# Altium integrated library AD Operational Amplifier.IntLib: 1114 symbols (part 8 of 13)
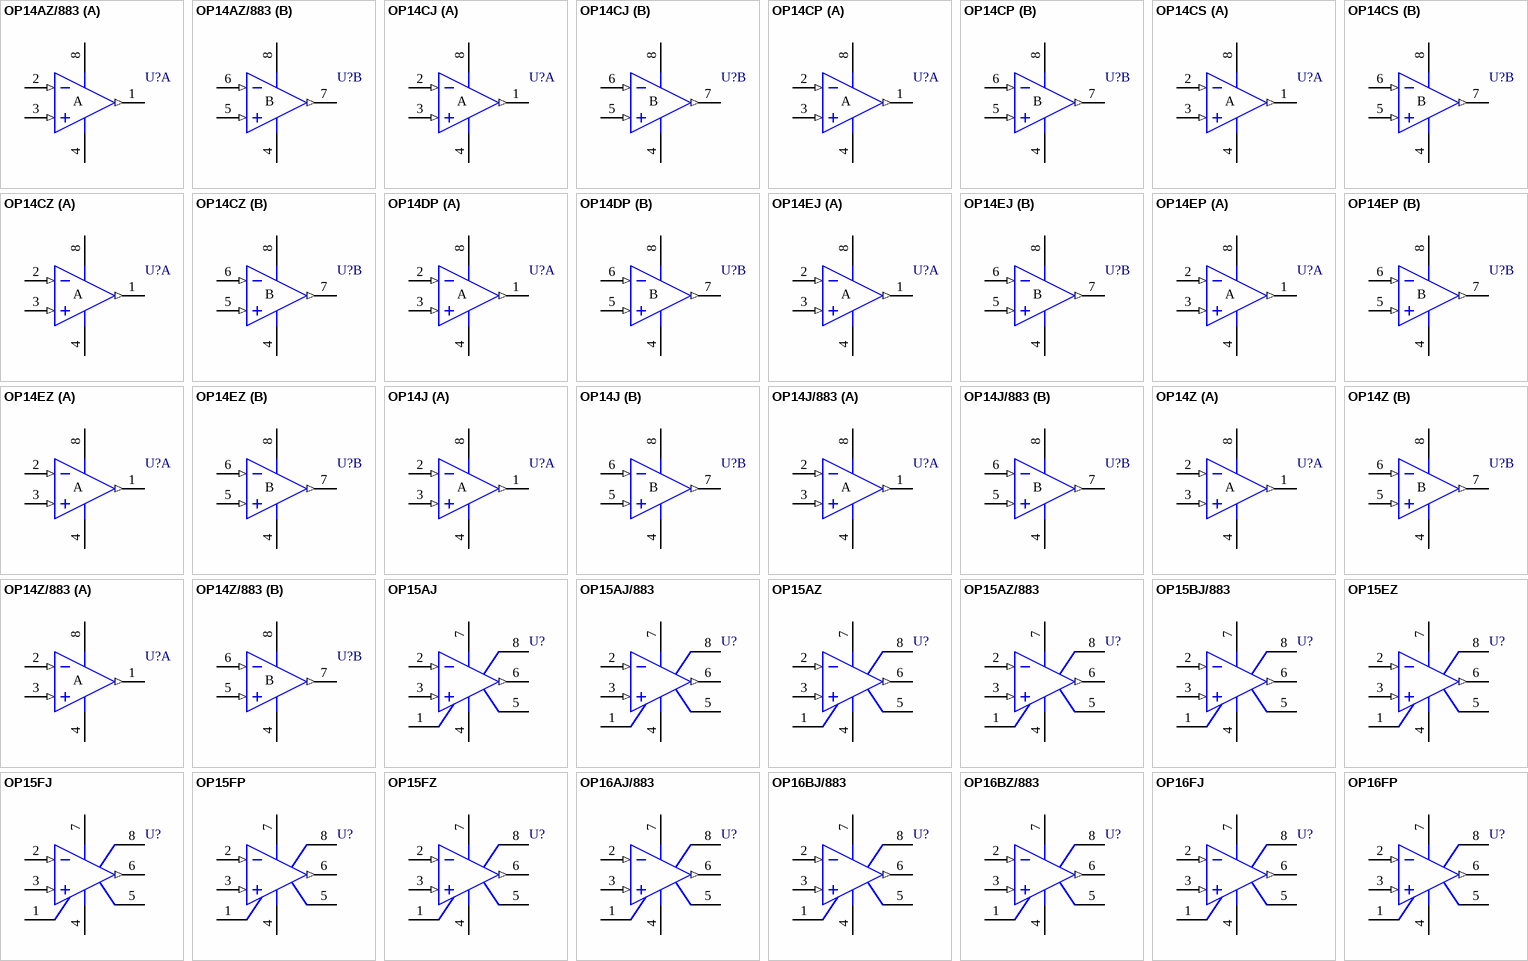
[diagram p53: symbols OP14AZ/883 to OP16FP]

## OP14Z/883
designator U?
Dual Matched High Performance Operational Amplifier; Package Information: Latest Revision: 1998; Published: 8-Jun-2000; Revision: 17-Jul-2002: Re-released for DXP Platform.; Datasheet: Designer's Reference Manual CD (REV. B 1992); Package Reference: Q-8; Publisher: Altium Limited
footprint Q-8 (DIP; 8 Leads; Row Spacing 7.62 mm; Pitch 2.54 mm)
pins on every part: 4 V- (power), 8 V+ (power)
part A pins: 1 OUT (out), 2 IN- (in), 3 IN+ (in)
part B pins: 5 IN+ (in), 6 IN- (in), 7 OUT (out)
part A text: A
part B text: B

## OP15AJ
designator U?
Precision JFET-Input Operational Amplifier; Package Information: Latest Revision: 1990; Note: Pin 8 is not connected; Pin 4 connected to case.; Published: 8-Jun-2000; Revision: 17-Jul-2002: Re-released for DXP Platform.; Datasheet: Latest Revision: 1992; Package Reference: H-08A; Publisher: Altium Limited
footprint H-08A (Can; 8 Leads; Pin Circle Dia. 5.08 mm; Lead Dia. 0.53 mm (max))
pins: 1 BAL, 2 IN- (in), 3 IN+ (in), 4 V- (power), 5 BAL, 6 OUT (out), 7 V+ (power), 8 NC

## OP15AJ/883
designator U?
Precision JFET-Input Operational Amplifier; Package Information: Latest Revision: 1990; Note: Pin 8 is not connected; Pin 4 connected to case.; Published: 8-Jun-2000; Revision: 17-Jul-2002: Re-released for DXP Platform.; Datasheet: Latest Revision: 1992; Package Reference: H-08A; Publisher: Altium Limited
footprint H-08A (Can; 8 Leads; Pin Circle Dia. 5.08 mm; Lead Dia. 0.53 mm (max))
pins: 1 BAL, 2 IN- (in), 3 IN+ (in), 4 V- (power), 5 BAL, 6 OUT (out), 7 V+ (power), 8 NC

## OP15AZ
designator U?
Precision JFET-Input Operational Amplifier; Package Information: Latest Revision: 1998; Note: Pin 8 is not connected.; Published: 8-Jun-2000; Revision: 17-Jul-2002: Re-released for DXP Platform.; Datasheet: Latest Revision: 1992; Package Reference: Q-8; Publisher: Altium Limited
footprint Q-8 (DIP; 8 Leads; Row Spacing 7.62 mm; Pitch 2.54 mm)
pins: 1 BAL, 2 IN- (in), 3 IN+ (in), 4 V- (power), 5 BAL, 6 OUT (out), 7 V+ (power), 8 NC

## OP15AZ/883
designator U?
Precision JFET-Input Operational Amplifier; Package Information: Latest Revision: 1998; Note: Pin 8 is not connected.; Published: 8-Jun-2000; Revision: 17-Jul-2002: Re-released for DXP Platform.; Datasheet: Latest Revision: 1992; Package Reference: Q-8; Publisher: Altium Limited
footprint Q-8 (DIP; 8 Leads; Row Spacing 7.62 mm; Pitch 2.54 mm)
pins: 1 BAL, 2 IN- (in), 3 IN+ (in), 4 V- (power), 5 BAL, 6 OUT (out), 7 V+ (power), 8 NC

## OP15BJ/883
designator U?
Precision JFET-Input Operational Amplifier; Revision 1: 10-Jul-2000: SIM Model Added.; Revision 2: 17-Jul-2002: Re-released for DXP Platform.; Package Information: Latest Revision: 1990; Note: Pin 8 is not connected; Pin 4 connected to case.; Published: 8-Jun-2000; Datasheet: Latest Revision: 1992; Package Reference: H-08A; Publisher: Altium Limited
footprint H-08A (Can; 8 Leads; Pin Circle Dia. 5.08 mm; Lead Dia. 0.53 mm (max))
simulation model OP15B (SUBCKT)
pins: 1 BAL, 2 IN- (in), 3 IN+ (in), 4 V- (power), 5 BAL, 6 OUT (out), 7 V+ (power), 8 NC

## OP15EZ
designator U?
Precision JFET-Input Operational Amplifier; Revision 1: 10-Jul-2000: SIM Model Added.; Revision 2: 17-Jul-2002: Re-released for DXP Platform.; Package Information: Latest Revision: 1998; Note: Pin 8 is not connected.; Published: 8-Jun-2000; Datasheet: Latest Revision: 1992; Package Reference: Q-8; Publisher: Altium Limited
footprint Q-8 (DIP; 8 Leads; Row Spacing 7.62 mm; Pitch 2.54 mm)
simulation model OP15E (SUBCKT)
pins: 1 BAL, 2 IN- (in), 3 IN+ (in), 4 V- (power), 5 BAL, 6 OUT (out), 7 V+ (power), 8 NC

## OP15FJ
designator U?
Precision JFET-Input Operational Amplifier; Revision 1: 10-Jul-2000: SIM Model Added.; Revision 2: 17-Jul-2002: Re-released for DXP Platform.; Package Information: Latest Revision: 1990; Note: Pin 8 is not connected; Pin 4 connected to case.; Published: 8-Jun-2000; Datasheet: Latest Revision: 1992; Package Reference: H-08A; Publisher: Altium Limited
footprint H-08A (Can; 8 Leads; Pin Circle Dia. 5.08 mm; Lead Dia. 0.53 mm (max))
simulation model OP15F (SUBCKT)
pins: 1 BAL, 2 IN- (in), 3 IN+ (in), 4 V- (power), 5 BAL, 6 OUT (out), 7 V+ (power), 8 NC

## OP15FP
designator U?
Precision JFET-Input Operational Amplifier; Revision 1: 10-Jul-2000: SIM Model Added.; Revision 2: 17-Jul-2002: Re-released for DXP Platform.; Note: Pin 8 is not connected.; Code - JEDEC: MO-001-AN; Published: 8-Jun-2000; Datasheet: Latest Revision: 1992; Package Reference: N-8_A; Publisher: Altium Limited
footprint N-8_A (DIP; 8 Leads; Row Spacing 7.62 mm; Pitch 2.54 mm)
simulation model OP15F (SUBCKT)
pins: 1 BAL, 2 IN- (in), 3 IN+ (in), 4 V- (power), 5 BAL, 6 OUT (out), 7 V+ (power), 8 NC

## OP15FZ
designator U?
Precision JFET-Input Operational Amplifier; Revision 1: 10-Jul-2000: SIM Model Added.; Revision 2: 17-Jul-2002: Re-released for DXP Platform.; Package Information: Latest Revision: 1998; Note: Pin 8 is not connected.; Published: 8-Jun-2000; Datasheet: Latest Revision: 1992; Package Reference: Q-8; Publisher: Altium Limited
footprint Q-8 (DIP; 8 Leads; Row Spacing 7.62 mm; Pitch 2.54 mm)
simulation model OP15F (SUBCKT)
pins: 1 BAL, 2 IN- (in), 3 IN+ (in), 4 V- (power), 5 BAL, 6 OUT (out), 7 V+ (power), 8 NC

## OP16AJ/883
designator U?
Precision JFET-Input Operational Amplifier; Revision 1: 10-Jul-2000: SIM Model Added.; Revision 2: 17-Jul-2002: Re-released for DXP Platform.; Package Information: Latest Revision: 1990; Note: Pin 8 is not connected; Pin 4 connected to case.; Published: 8-Jun-2000; Datasheet: Latest Revision: 1992; Package Reference: H-08A; Publisher: Altium Limited
footprint H-08A (Can; 8 Leads; Pin Circle Dia. 5.08 mm; Lead Dia. 0.53 mm (max))
simulation model OP16A (SUBCKT)
pins: 1 BAL, 2 IN- (in), 3 IN+ (in), 4 V- (power), 5 BAL, 6 OUT (out), 7 V+ (power), 8 NC

## OP16BJ/883
designator U?
Precision JFET-Input Operational Amplifier; Revision 1: 10-Jul-2000: SIM Model Added.; Revision 2: 17-Jul-2002: Re-released for DXP Platform.; Package Information: Latest Revision: 1990; Note: Pin 8 is not connected; Pin 4 connected to case.; Published: 8-Jun-2000; Datasheet: Latest Revision: 1992; Package Reference: H-08A; Publisher: Altium Limited
footprint H-08A (Can; 8 Leads; Pin Circle Dia. 5.08 mm; Lead Dia. 0.53 mm (max))
simulation model OP16B (SUBCKT)
pins: 1 BAL, 2 IN- (in), 3 IN+ (in), 4 V- (power), 5 BAL, 6 OUT (out), 7 V+ (power), 8 NC

## OP16BZ/883
designator U?
Precision JFET-Input Operational Amplifier; Revision 1: 10-Jul-2000: SIM Model Added.; Revision 2: 17-Jul-2002: Re-released for DXP Platform.; Package Information: Latest Revision: 1998; Note: Pin 8 is not connected.; Published: 8-Jun-2000; Datasheet: Latest Revision: 1992; Package Reference: Q-8; Publisher: Altium Limited
footprint Q-8 (DIP; 8 Leads; Row Spacing 7.62 mm; Pitch 2.54 mm)
simulation model OP16B (SUBCKT)
pins: 1 BAL, 2 IN- (in), 3 IN+ (in), 4 V- (power), 5 BAL, 6 OUT (out), 7 V+ (power), 8 NC

## OP16FJ
designator U?
Precision JFET-Input Operational Amplifier; Revision 1: 10-Jul-2000: SIM Model Added.; Revision 2: 17-Jul-2002: Re-released for DXP Platform.; Package Information: Latest Revision: 1990; Note: Pin 8 is not connected; Pin 4 connected to case.; Published: 8-Jun-2000; Datasheet: Latest Revision: 1992; Package Reference: H-08A; Publisher: Altium Limited
footprint H-08A (Can; 8 Leads; Pin Circle Dia. 5.08 mm; Lead Dia. 0.53 mm (max))
simulation model OP16F (SUBCKT)
pins: 1 BAL, 2 IN- (in), 3 IN+ (in), 4 V- (power), 5 BAL, 6 OUT (out), 7 V+ (power), 8 NC

## OP16FP
designator U?
Precision JFET-Input Operational Amplifier; Revision 1: 10-Jul-2000: SIM Model Added.; Revision 2: 17-Jul-2002: Re-released for DXP Platform.; Note: Pin 8 is not connected.; Code - JEDEC: MO-001-AN; Published: 8-Jun-2000; Datasheet: Latest Revision: 1992; Package Reference: N-8_A; Publisher: Altium Limited
footprint N-8_A (DIP; 8 Leads; Row Spacing 7.62 mm; Pitch 2.54 mm)
simulation model OP16F (SUBCKT)
pins: 1 BAL, 2 IN- (in), 3 IN+ (in), 4 V- (power), 5 BAL, 6 OUT (out), 7 V+ (power), 8 NC

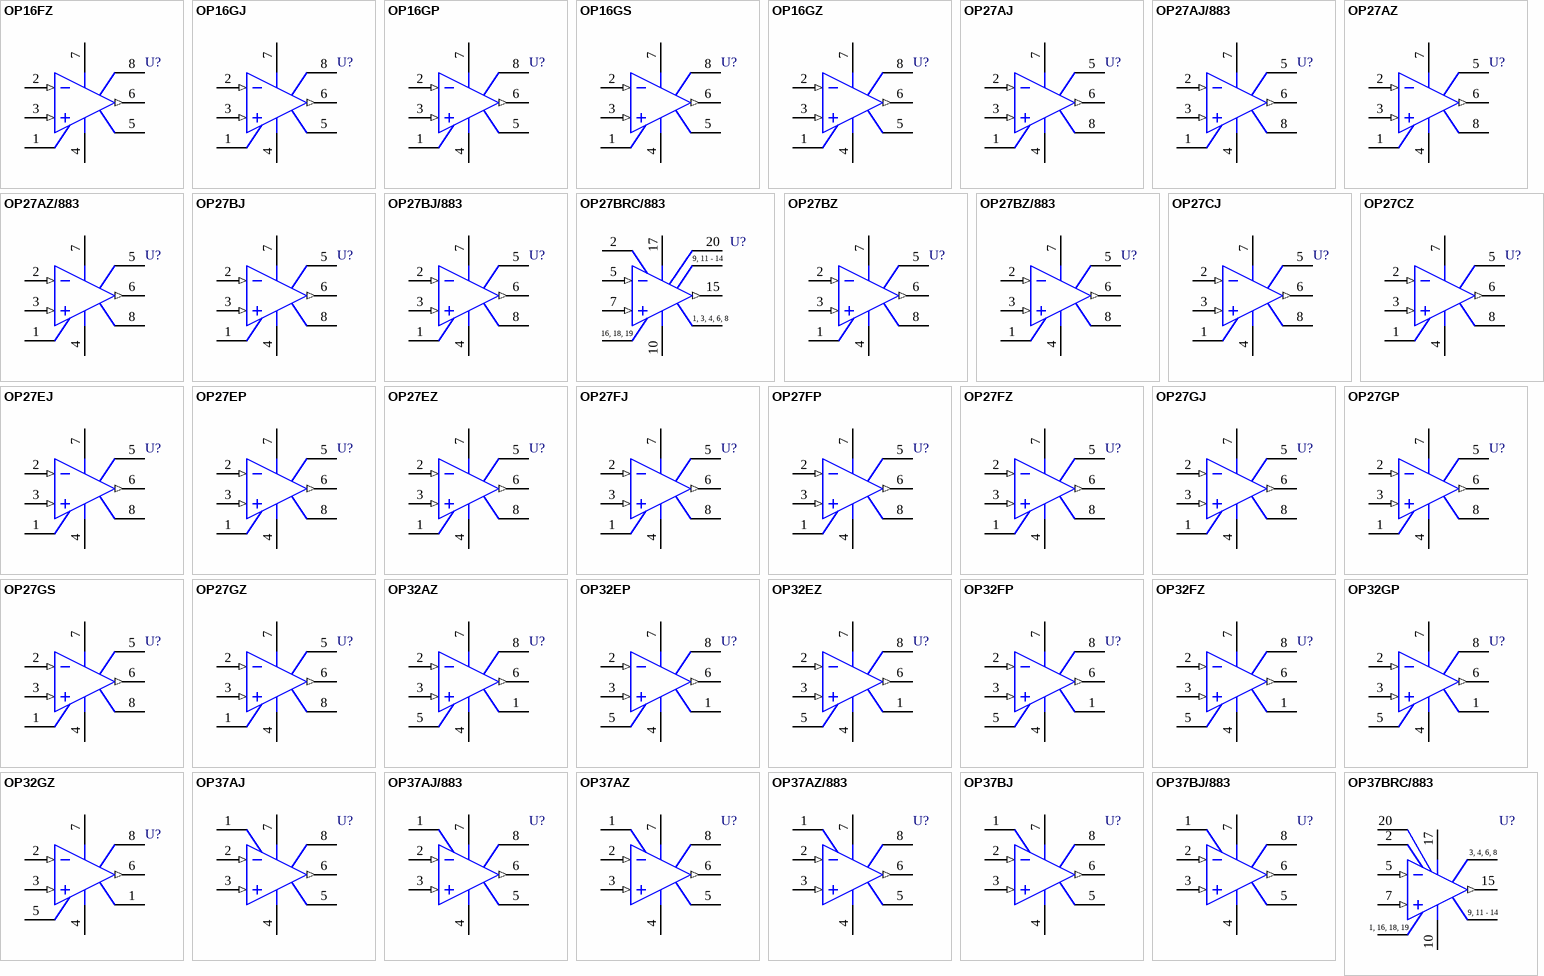
[diagram p23: symbols OP16FZ to OP37BRC/883]

## OP16FZ
designator U?
Precision JFET-Input Operational Amplifier; Revision 1: 10-Jul-2000: SIM Model Added.; Revision 2: 17-Jul-2002: Re-released for DXP Platform.; Package Information: Latest Revision: 1998; Note: Pin 8 is not connected.; Published: 8-Jun-2000; Datasheet: Latest Revision: 1992; Package Reference: Q-8; Publisher: Altium Limited
footprint Q-8 (DIP; 8 Leads; Row Spacing 7.62 mm; Pitch 2.54 mm)
simulation model OP16F (SUBCKT)
pins: 1 BAL, 2 IN- (in), 3 IN+ (in), 4 V- (power), 5 BAL, 6 OUT (out), 7 V+ (power), 8 NC

## OP16GJ
designator U?
Precision JFET-Input Operational Amplifier; Revision 1: 10-Jul-2000: SIM Model Added.; Revision 2: 17-Jul-2002: Re-released for DXP Platform.; Package Information: Latest Revision: 1990; Note: Pin 8 is not connected; Pin 4 connected to case.; Published: 8-Jun-2000; Datasheet: Latest Revision: 1992; Package Reference: H-08A; Publisher: Altium Limited
footprint H-08A (Can; 8 Leads; Pin Circle Dia. 5.08 mm; Lead Dia. 0.53 mm (max))
simulation model OP16G (SUBCKT)
pins: 1 BAL, 2 IN- (in), 3 IN+ (in), 4 V- (power), 5 BAL, 6 OUT (out), 7 V+ (power), 8 NC

## OP16GP
designator U?
Precision JFET-Input Operational Amplifier; Revision 1: 10-Jul-2000: SIM Model Added.; Revision 2: 17-Jul-2002: Re-released for DXP Platform.; Note: Pin 8 is not connected.; Code - JEDEC: MO-001-AN; Published: 8-Jun-2000; Datasheet: Latest Revision: 1992; Package Reference: N-8_A; Publisher: Altium Limited
footprint N-8_A (DIP; 8 Leads; Row Spacing 7.62 mm; Pitch 2.54 mm)
simulation model OP16G (SUBCKT)
pins: 1 BAL, 2 IN- (in), 3 IN+ (in), 4 V- (power), 5 BAL, 6 OUT (out), 7 V+ (power), 8 NC

## OP16GS
designator U?
Precision JFET-Input Operational Amplifier; Revision 1: 10-Jul-2000: SIM Model Added.; Revision 2: 17-Jul-2002: Re-released for DXP Platform.; Package Information: Latest Revision: revA; Note: Pin 8 is not connected.; Code - JEDEC: MS-012-AA; Code - IPC: SO8; Published: 8-Jun-2000; Datasheet: Latest Revision: 1992; Package Reference: SO-8; Publisher: Altium Limited
footprint SO-8 (Small Outline; 8 Leads; Body Width 3.9 mm; Pitch 1.27 mm)
simulation model OP16G (SUBCKT)
pins: 1 BAL, 2 IN- (in), 3 IN+ (in), 4 V- (power), 5 BAL, 6 OUT (out), 7 V+ (power), 8 NC

## OP16GZ
designator U?
Precision JFET-Input Operational Amplifier; Revision 1: 10-Jul-2000: SIM Model Added.; Revision 2: 17-Jul-2002: Re-released for DXP Platform.; Package Information: Latest Revision: 1998; Note: Pin 8 is not connected.; Published: 8-Jun-2000; Datasheet: Latest Revision: 1992; Package Reference: Q-8; Publisher: Altium Limited
footprint Q-8 (DIP; 8 Leads; Row Spacing 7.62 mm; Pitch 2.54 mm)
simulation model OP16G (SUBCKT)
pins: 1 BAL, 2 IN- (in), 3 IN+ (in), 4 V- (power), 5 BAL, 6 OUT (out), 7 V+ (power), 8 NC

## OP27AJ
designator U?
Low-Noise, Precision Operational Amplifier; Package Information: Latest Revision: 1990; Note: Pin 5 is not connected; Pin 4 connected to case.; Published: 8-Jun-2000; Revision: 17-Jul-2002: Re-released for DXP Platform.; Datasheet: Designer's Reference Manual CD (1992); Package Reference: H-08A; Publisher: Altium Limited
footprint H-08A (Can; 8 Leads; Pin Circle Dia. 5.08 mm; Lead Dia. 0.53 mm (max))
simulation model OP27A (SUBCKT)
pins: 1 BAL, 2 IN- (in), 3 IN+ (in), 4 V- (power), 5 NC, 6 OUT (out), 7 V+ (power), 8 BAL

## OP27AJ/883
designator U?
Low-Noise, Precision Operational Amplifier; Package Information: Latest Revision: 1990; Note: Pin 5 is not connected; Pin 4 connected to case.; Published: 8-Jun-2000; Revision: 17-Jul-2002: Re-released for DXP Platform.; Datasheet: Designer's Reference Manual CD (1992); Package Reference: H-08A; Publisher: Altium Limited
footprint H-08A (Can; 8 Leads; Pin Circle Dia. 5.08 mm; Lead Dia. 0.53 mm (max))
simulation model OP27A (SUBCKT)
pins: 1 BAL, 2 IN- (in), 3 IN+ (in), 4 V- (power), 5 NC, 6 OUT (out), 7 V+ (power), 8 BAL

## OP27AZ
designator U?
Low-Noise, Precision Operational Amplifier; Package Information: Latest Revision: 1998; Note: Pin 5 is not connected.; Published: 8-Jun-2000; Revision: 17-Jul-2002: Re-released for DXP Platform.; Datasheet: Designer's Reference Manual CD (1992); Package Reference: Q-8; Publisher: Altium Limited
footprint Q-8 (DIP; 8 Leads; Row Spacing 7.62 mm; Pitch 2.54 mm)
simulation model OP27A (SUBCKT)
pins: 1 CMPEN, 2 IN- (in), 3 IN+ (in), 4 V- (power), 5 NC, 6 OUT (out), 7 V+ (power), 8 CMPEN

## OP27AZ/883
designator U?
Low-Noise, Precision Operational Amplifier; Package Information: Latest Revision: 1998; Note: Pin 5 is not connected.; Published: 8-Jun-2000; Revision: 17-Jul-2002: Re-released for DXP Platform.; Datasheet: Designer's Reference Manual CD (1992); Package Reference: Q-8; Publisher: Altium Limited
footprint Q-8 (DIP; 8 Leads; Row Spacing 7.62 mm; Pitch 2.54 mm)
simulation model OP27A (SUBCKT)
pins: 1 CMPEN, 2 IN- (in), 3 IN+ (in), 4 V- (power), 5 NC, 6 OUT (out), 7 V+ (power), 8 CMPEN

## OP27BJ
designator U?
Low-Noise, Precision Operational Amplifier; Package Information: Latest Revision: 1990; Note: Pin 5 is not connected; Pin 4 connected to case.; Published: 8-Jun-2000; Revision: 17-Jul-2002: Re-released for DXP Platform.; Datasheet: Designer's Reference Manual CD (1992); Package Reference: H-08A; Publisher: Altium Limited
footprint H-08A (Can; 8 Leads; Pin Circle Dia. 5.08 mm; Lead Dia. 0.53 mm (max))
simulation model OP27B (SUBCKT)
pins: 1 BAL, 2 IN- (in), 3 IN+ (in), 4 V- (power), 5 NC, 6 OUT (out), 7 V+ (power), 8 BAL

## OP27BJ/883
designator U?
Low-Noise, Precision Operational Amplifier; Package Information: Latest Revision: 1990; Note: Pin 5 is not connected; Pin 4 connected to case.; Published: 8-Jun-2000; Revision: 17-Jul-2002: Re-released for DXP Platform.; Datasheet: Designer's Reference Manual CD (1992); Package Reference: H-08A; Publisher: Altium Limited
footprint H-08A (Can; 8 Leads; Pin Circle Dia. 5.08 mm; Lead Dia. 0.53 mm (max))
simulation model OP27B (SUBCKT)
pins: 1 BAL, 2 IN- (in), 3 IN+ (in), 4 V- (power), 5 NC, 6 OUT (out), 7 V+ (power), 8 BAL

## OP27BRC/883
designator U?
Low-Noise, Precision Operational Amplifier; Note: Pins 1, 3, 4, 6, 8, 9, 11, 12, 13, 14, 16, 18 and 19 are not connected.; Published: 8-Jun-2000; Revision: 17-Jul-2002: Re-released for DXP Platform.; Datasheet: Designer's Reference Manual CD (1992); Package Reference: E-20A; Publisher: Altium Limited
footprint E-20A (Leadless Chip Carrier; 20 Terminals; Body 8.9 x 8.9 mm)
simulation model OP27B (SUBCKT)
pins: 1 NC, 2 BAL, 3 NC, 4 NC, 5 IN- (in), 6 NC, 7 IN+ (in), 8 NC, 9 NC, 10 V- (power), 11 NC, 12 NC, 13 NC, 14 NC, 15 OUT (out), 16 NC, 17 V+ (power), 18 NC, 19 NC, 20 BAL
text: 9, 11 - 14; 1, 3, 4, 6, 8; 16, 18, 19

## OP27BZ
designator U?
Low-Noise, Precision Operational Amplifier; Package Information: Latest Revision: 1998; Note: Pin 5 is not connected.; Published: 8-Jun-2000; Revision: 17-Jul-2002: Re-released for DXP Platform.; Datasheet: Designer's Reference Manual CD (1992); Package Reference: Q-8; Publisher: Altium Limited
footprint Q-8 (DIP; 8 Leads; Row Spacing 7.62 mm; Pitch 2.54 mm)
simulation model OP27B (SUBCKT)
pins: 1 CMPEN, 2 IN- (in), 3 IN+ (in), 4 V- (power), 5 NC, 6 OUT (out), 7 V+ (power), 8 CMPEN

## OP27BZ/883
designator U?
Low-Noise, Precision Operational Amplifier; Package Information: Latest Revision: 1998; Note: Pin 5 is not connected.; Published: 8-Jun-2000; Revision: 17-Jul-2002: Re-released for DXP Platform.; Datasheet: Designer's Reference Manual CD (1992); Package Reference: Q-8; Publisher: Altium Limited
footprint Q-8 (DIP; 8 Leads; Row Spacing 7.62 mm; Pitch 2.54 mm)
simulation model OP27B (SUBCKT)
pins: 1 CMPEN, 2 IN- (in), 3 IN+ (in), 4 V- (power), 5 NC, 6 OUT (out), 7 V+ (power), 8 CMPEN

## OP27CJ
designator U?
Low-Noise, Precision Operational Amplifier; Package Information: Latest Revision: 1990; Note: Pin 5 is not connected; Pin 4 connected to case.; Published: 8-Jun-2000; Revision: 17-Jul-2002: Re-released for DXP Platform.; Datasheet: Designer's Reference Manual CD (1992); Package Reference: H-08A; Publisher: Altium Limited
footprint H-08A (Can; 8 Leads; Pin Circle Dia. 5.08 mm; Lead Dia. 0.53 mm (max))
simulation model OP27C (SUBCKT)
pins: 1 BAL, 2 IN- (in), 3 IN+ (in), 4 V- (power), 5 NC, 6 OUT (out), 7 V+ (power), 8 BAL

## OP27CZ
designator U?
Low-Noise, Precision Operational Amplifier; Package Information: Latest Revision: 1998; Note: Pin 5 is not connected.; Published: 8-Jun-2000; Revision: 17-Jul-2002: Re-released for DXP Platform.; Datasheet: Designer's Reference Manual CD (1992); Package Reference: Q-8; Publisher: Altium Limited
footprint Q-8 (DIP; 8 Leads; Row Spacing 7.62 mm; Pitch 2.54 mm)
simulation model OP27C (SUBCKT)
pins: 1 CMPEN, 2 IN- (in), 3 IN+ (in), 4 V- (power), 5 NC, 6 OUT (out), 7 V+ (power), 8 CMPEN

## OP27EJ
designator U?
Low-Noise, Precision Operational Amplifier; Package Information: Latest Revision: 1990; Note: Pin 5 is not connected; Pin 4 connected to case.; Published: 8-Jun-2000; Revision: 17-Jul-2002: Re-released for DXP Platform.; Datasheet: Designer's Reference Manual CD (1992); Package Reference: H-08A; Publisher: Altium Limited
footprint H-08A (Can; 8 Leads; Pin Circle Dia. 5.08 mm; Lead Dia. 0.53 mm (max))
simulation model OP27E (SUBCKT)
pins: 1 BAL, 2 IN- (in), 3 IN+ (in), 4 V- (power), 5 NC, 6 OUT (out), 7 V+ (power), 8 BAL

## OP27EP
designator U?
Low-Noise, Precision Operational Amplifier; Note: Pin 5 is not connected.; Code - JEDEC: MO-001-AN; Published: 8-Jun-2000; Revision: 17-Jul-2002: Re-released for DXP Platform.; Datasheet: Designer's Reference Manual CD (1992); Package Reference: N-8_A; Publisher: Altium Limited
footprint N-8_A (DIP; 8 Leads; Row Spacing 7.62 mm; Pitch 2.54 mm)
simulation model OP27E (SUBCKT)
pins: 1 CMPEN, 2 IN- (in), 3 IN+ (in), 4 V- (power), 5 NC, 6 OUT (out), 7 V+ (power), 8 CMPEN

## OP27EZ
designator U?
Low-Noise, Precision Operational Amplifier; Package Information: Latest Revision: 1998; Note: Pin 5 is not connected.; Published: 8-Jun-2000; Revision: 17-Jul-2002: Re-released for DXP Platform.; Datasheet: Designer's Reference Manual CD (1992); Package Reference: Q-8; Publisher: Altium Limited
footprint Q-8 (DIP; 8 Leads; Row Spacing 7.62 mm; Pitch 2.54 mm)
simulation model OP27E (SUBCKT)
pins: 1 CMPEN, 2 IN- (in), 3 IN+ (in), 4 V- (power), 5 NC, 6 OUT (out), 7 V+ (power), 8 CMPEN

## OP27FJ
designator U?
Low-Noise, Precision Operational Amplifier; Package Information: Latest Revision: 1990; Note: Pin 5 is not connected; Pin 4 connected to case.; Published: 8-Jun-2000; Revision: 17-Jul-2002: Re-released for DXP Platform.; Datasheet: Designer's Reference Manual CD (1992); Package Reference: H-08A; Publisher: Altium Limited
footprint H-08A (Can; 8 Leads; Pin Circle Dia. 5.08 mm; Lead Dia. 0.53 mm (max))
simulation model OP27F (SUBCKT)
pins: 1 BAL, 2 IN- (in), 3 IN+ (in), 4 V- (power), 5 NC, 6 OUT (out), 7 V+ (power), 8 BAL

## OP27FP
designator U?
Low-Noise, Precision Operational Amplifier; Note: Pin 5 is not connected.; Code - JEDEC: MO-001-AN; Published: 8-Jun-2000; Revision: 17-Jul-2002: Re-released for DXP Platform.; Datasheet: Designer's Reference Manual CD (1992); Package Reference: N-8_A; Publisher: Altium Limited
footprint N-8_A (DIP; 8 Leads; Row Spacing 7.62 mm; Pitch 2.54 mm)
simulation model OP27F (SUBCKT)
pins: 1 CMPEN, 2 IN- (in), 3 IN+ (in), 4 V- (power), 5 NC, 6 OUT (out), 7 V+ (power), 8 CMPEN

## OP27FZ
designator U?
Low-Noise, Precision Operational Amplifier; Package Information: Latest Revision: 1998; Note: Pin 5 is not connected.; Published: 8-Jun-2000; Revision: 17-Jul-2002: Re-released for DXP Platform.; Datasheet: Designer's Reference Manual CD (1992); Package Reference: Q-8; Publisher: Altium Limited
footprint Q-8 (DIP; 8 Leads; Row Spacing 7.62 mm; Pitch 2.54 mm)
simulation model OP27F (SUBCKT)
pins: 1 CMPEN, 2 IN- (in), 3 IN+ (in), 4 V- (power), 5 NC, 6 OUT (out), 7 V+ (power), 8 CMPEN

## OP27GJ
designator U?
Low-Noise, Precision Operational Amplifier; Package Information: Latest Revision: 1990; Note: Pin 5 is not connected; Pin 4 connected to case.; Published: 8-Jun-2000; Revision: 17-Jul-2002: Re-released for DXP Platform.; Datasheet: Designer's Reference Manual CD (1992); Package Reference: H-08A; Publisher: Altium Limited
footprint H-08A (Can; 8 Leads; Pin Circle Dia. 5.08 mm; Lead Dia. 0.53 mm (max))
simulation model OP27G (SUBCKT)
pins: 1 BAL, 2 IN- (in), 3 IN+ (in), 4 V- (power), 5 NC, 6 OUT (out), 7 V+ (power), 8 BAL

## OP27GP
designator U?
Low-Noise, Precision Operational Amplifier; Note: Pin 5 is not connected.; Code - JEDEC: MO-001-AN; Published: 8-Jun-2000; Revision: 17-Jul-2002: Re-released for DXP Platform.; Datasheet: Designer's Reference Manual CD (1992); Package Reference: N-8_A; Publisher: Altium Limited
footprint N-8_A (DIP; 8 Leads; Row Spacing 7.62 mm; Pitch 2.54 mm)
simulation model OP27G (SUBCKT)
pins: 1 CMPEN, 2 IN- (in), 3 IN+ (in), 4 V- (power), 5 NC, 6 OUT (out), 7 V+ (power), 8 CMPEN

## OP27GS
designator U?
Low-Noise, Precision Operational Amplifier; Package Information: Latest Revision: revA; Note: Pin 5 is not connected.; Code - JEDEC: MS-012-AA; Code - IPC: SO8; Published: 8-Jun-2000; Revision: 17-Jul-2002: Re-released for DXP Platform.; Datasheet: Designer's Reference Manual CD (1992); Package Reference: SO-8; Publisher: Altium Limited
footprint SO-8 (Small Outline; 8 Leads; Body Width 3.9 mm; Pitch 1.27 mm)
simulation model OP27G (SUBCKT)
pins: 1 CMPEN, 2 IN- (in), 3 IN+ (in), 4 V- (power), 5 NC, 6 OUT (out), 7 V+ (power), 8 CMPEN

## OP27GZ
designator U?
Low-Noise, Precision Operational Amplifier; Package Information: Latest Revision: 1998; Note: Pin 5 is not connected.; Published: 8-Jun-2000; Revision: 17-Jul-2002: Re-released for DXP Platform.; Datasheet: Designer's Reference Manual CD (1992); Package Reference: Q-8; Publisher: Altium Limited
footprint Q-8 (DIP; 8 Leads; Row Spacing 7.62 mm; Pitch 2.54 mm)
simulation model OP27G (SUBCKT)
pins: 1 CMPEN, 2 IN- (in), 3 IN+ (in), 4 V- (power), 5 NC, 6 OUT (out), 7 V+ (power), 8 CMPEN

## OP32AZ
designator U?
High-Speed (Avcl >= 10) Programmable Micropower Operational Amplifier; Package Information: Latest Revision: 1998; Note: Do not short pin 8 to V- or ground.  See application information; Published: 8-Jun-2000; Revision: 17-Jul-2002: Re-released for DXP Platform.; Datasheet: Designer's Reference Manual CD (REV. C 1992); Package Reference: Q-8; Publisher: Altium Limited
footprint Q-8 (DIP; 8 Leads; Row Spacing 7.62 mm; Pitch 2.54 mm)
pins: 1 BAL, 2 IN- (in), 3 IN+ (in), 4 V- (power), 5 BAL, 6 OUT (out), 7 V+ (power), 8 IS

## OP32EP
designator U?
High-Speed (Avcl >= 10) Programmable Micropower Operational Amplifier; Note: Do not short pin 8 to V- or ground.  See application information; Code - JEDEC: MO-001-AN; Published: 8-Jun-2000; Revision: 17-Jul-2002: Re-released for DXP Platform.; Datasheet: Designer's Reference Manual CD (REV. C 1992); Package Reference: N-8_A; Publisher: Altium Limited
footprint N-8_A (DIP; 8 Leads; Row Spacing 7.62 mm; Pitch 2.54 mm)
pins: 1 BAL, 2 IN- (in), 3 IN+ (in), 4 V- (power), 5 BAL, 6 OUT (out), 7 V+ (power), 8 IS

## OP32EZ
designator U?
High-Speed (Avcl >= 10) Programmable Micropower Operational Amplifier; Package Information: Latest Revision: 1998; Note: Do not short pin 8 to V- or ground.  See application information; Published: 8-Jun-2000; Revision: 17-Jul-2002: Re-released for DXP Platform.; Datasheet: Designer's Reference Manual CD (REV. C 1992); Package Reference: Q-8; Publisher: Altium Limited
footprint Q-8 (DIP; 8 Leads; Row Spacing 7.62 mm; Pitch 2.54 mm)
pins: 1 BAL, 2 IN- (in), 3 IN+ (in), 4 V- (power), 5 BAL, 6 OUT (out), 7 V+ (power), 8 IS

## OP32FP
designator U?
High-Speed (Avcl >= 10) Programmable Micropower Operational Amplifier; Note: Do not short pin 8 to V- or ground.  See application information; Code - JEDEC: MO-001-AN; Published: 8-Jun-2000; Revision: 17-Jul-2002: Re-released for DXP Platform.; Datasheet: Designer's Reference Manual CD (REV. C 1992); Package Reference: N-8_A; Publisher: Altium Limited
footprint N-8_A (DIP; 8 Leads; Row Spacing 7.62 mm; Pitch 2.54 mm)
pins: 1 BAL, 2 IN- (in), 3 IN+ (in), 4 V- (power), 5 BAL, 6 OUT (out), 7 V+ (power), 8 IS

## OP32FZ
designator U?
High-Speed (Avcl >= 10) Programmable Micropower Operational Amplifier; Package Information: Latest Revision: 1998; Note: Do not short pin 8 to V- or ground.  See application information; Published: 8-Jun-2000; Revision: 17-Jul-2002: Re-released for DXP Platform.; Datasheet: Designer's Reference Manual CD (REV. C 1992); Package Reference: Q-8; Publisher: Altium Limited
footprint Q-8 (DIP; 8 Leads; Row Spacing 7.62 mm; Pitch 2.54 mm)
pins: 1 BAL, 2 IN- (in), 3 IN+ (in), 4 V- (power), 5 BAL, 6 OUT (out), 7 V+ (power), 8 IS

## OP32GP
designator U?
High-Speed (Avcl >= 10) Programmable Micropower Operational Amplifier; Note: Do not short pin 8 to V- or ground.  See application information; Code - JEDEC: MO-001-AN; Published: 8-Jun-2000; Revision: 17-Jul-2002: Re-released for DXP Platform.; Datasheet: Designer's Reference Manual CD (REV. C 1992); Package Reference: N-8_A; Publisher: Altium Limited
footprint N-8_A (DIP; 8 Leads; Row Spacing 7.62 mm; Pitch 2.54 mm)
pins: 1 BAL, 2 IN- (in), 3 IN+ (in), 4 V- (power), 5 BAL, 6 OUT (out), 7 V+ (power), 8 IS

## OP32GZ
designator U?
High-Speed (Avcl >= 10) Programmable Micropower Operational Amplifier; Package Information: Latest Revision: 1998; Note: Do not short pin 8 to V- or ground.  See application information; Published: 8-Jun-2000; Revision: 17-Jul-2002: Re-released for DXP Platform.; Datasheet: Designer's Reference Manual CD (REV. C 1992); Package Reference: Q-8; Publisher: Altium Limited
footprint Q-8 (DIP; 8 Leads; Row Spacing 7.62 mm; Pitch 2.54 mm)
pins: 1 BAL, 2 IN- (in), 3 IN+ (in), 4 V- (power), 5 BAL, 6 OUT (out), 7 V+ (power), 8 IS

## OP37AJ
designator U?
Low-Noise, Precision, High-Speed Operational Amplifier (Avcl >= 5); Package Information: Latest Revision: 1990; Note: Pin 5 is not connected; Pin 4 connected to case.; Published: 8-Jun-2000; Revision: 17-Jul-2002: Re-released for DXP Platform.; Datasheet: Designer's Reference Manual CD (1992); Package Reference: H-08A; Publisher: Altium Limited
footprint H-08A (Can; 8 Leads; Pin Circle Dia. 5.08 mm; Lead Dia. 0.53 mm (max))
simulation model OP37A (SUBCKT)
pins: 1 VOSTRIM, 2 IN- (in), 3 IN+ (in), 4 V- (power), 5 NC, 6 OUT (out), 7 V+ (power), 8 VOSTRIM

## OP37AJ/883
designator U?
Low-Noise, Precision, High-Speed Operational Amplifier (Avcl >= 5); Package Information: Latest Revision: 1990; Note: Pin 5 is not connected; Pin 4 connected to case.; Published: 8-Jun-2000; Revision: 17-Jul-2002: Re-released for DXP Platform.; Datasheet: Designer's Reference Manual CD (1992); Package Reference: H-08A; Publisher: Altium Limited
footprint H-08A (Can; 8 Leads; Pin Circle Dia. 5.08 mm; Lead Dia. 0.53 mm (max))
simulation model OP37A (SUBCKT)
pins: 1 VOSTRIM, 2 IN- (in), 3 IN+ (in), 4 V- (power), 5 NC, 6 OUT (out), 7 V+ (power), 8 VOSTRIM

## OP37AZ
designator U?
Low-Noise, Precision, High-Speed Operational Amplifier (Avcl >= 5); Package Information: Latest Revision: 1998; Note: Pin 5 is not connected.; Published: 8-Jun-2000; Revision: 17-Jul-2002: Re-released for DXP Platform.; Datasheet: Designer's Reference Manual CD (1992); Package Reference: Q-8; Publisher: Altium Limited
footprint Q-8 (DIP; 8 Leads; Row Spacing 7.62 mm; Pitch 2.54 mm)
simulation model OP37A (SUBCKT)
pins: 1 VOSTRIM, 2 IN- (in), 3 IN+ (in), 4 V- (power), 5 NC, 6 OUT (out), 7 V+ (power), 8 VOSTRIM

## OP37AZ/883
designator U?
Low-Noise, Precision, High-Speed Operational Amplifier (Avcl >= 5); Package Information: Latest Revision: 1998; Note: Pin 5 is not connected.; Published: 8-Jun-2000; Revision: 17-Jul-2002: Re-released for DXP Platform.; Datasheet: Designer's Reference Manual CD (1992); Package Reference: Q-8; Publisher: Altium Limited
footprint Q-8 (DIP; 8 Leads; Row Spacing 7.62 mm; Pitch 2.54 mm)
simulation model OP37A (SUBCKT)
pins: 1 VOSTRIM, 2 IN- (in), 3 IN+ (in), 4 V- (power), 5 NC, 6 OUT (out), 7 V+ (power), 8 VOSTRIM

## OP37BJ
designator U?
Low-Noise, Precision, High-Speed Operational Amplifier (Avcl >= 5); Package Information: Latest Revision: 1990; Note: Pin 5 is not connected; Pin 4 connected to case.; Published: 8-Jun-2000; Revision: 17-Jul-2002: Re-released for DXP Platform.; Datasheet: Designer's Reference Manual CD (1992); Package Reference: H-08A; Publisher: Altium Limited
footprint H-08A (Can; 8 Leads; Pin Circle Dia. 5.08 mm; Lead Dia. 0.53 mm (max))
simulation model OP37B (SUBCKT)
pins: 1 VOSTRIM, 2 IN- (in), 3 IN+ (in), 4 V- (power), 5 NC, 6 OUT (out), 7 V+ (power), 8 VOSTRIM

## OP37BJ/883
designator U?
Low-Noise, Precision, High-Speed Operational Amplifier (Avcl >= 5); Package Information: Latest Revision: 1990; Note: Pin 5 is not connected; Pin 4 connected to case.; Published: 8-Jun-2000; Revision: 17-Jul-2002: Re-released for DXP Platform.; Datasheet: Designer's Reference Manual CD (1992); Package Reference: H-08A; Publisher: Altium Limited
footprint H-08A (Can; 8 Leads; Pin Circle Dia. 5.08 mm; Lead Dia. 0.53 mm (max))
simulation model OP37B (SUBCKT)
pins: 1 VOSTRIM, 2 IN- (in), 3 IN+ (in), 4 V- (power), 5 NC, 6 OUT (out), 7 V+ (power), 8 VOSTRIM

## OP37BRC/883
designator U?
Low-Noise, Precision, High-Speed Operational Amplifier (Avcl >= 5); Note: Pins 1, 3, 4, 6, 8, 9, 11, 12, 13, 14, 16, 18 and 19 are not connected.; Published: 8-Jun-2000; Revision: 17-Jul-2002: Re-released for DXP Platform.; Datasheet: Designer's Reference Manual CD (1992); Package Reference: E-20A; Publisher: Altium Limited
footprint E-20A (Leadless Chip Carrier; 20 Terminals; Body 8.9 x 8.9 mm)
simulation model OP37B (SUBCKT)
pins: 1 NC, 2 VOSTRIM, 3 NC, 4 NC, 5 IN- (in), 6 NC, 7 IN+ (in), 8 NC, 9 NC, 10 V- (power), 11 NC, 12 NC, 13 NC, 14 NC, 15 OUT (out), 16 NC, 17 V+ (power), 18 NC, 19 NC, 20 VOSTRIM
text: 3, 4, 6, 8; 9, 11 - 14; 1, 16, 18, 19

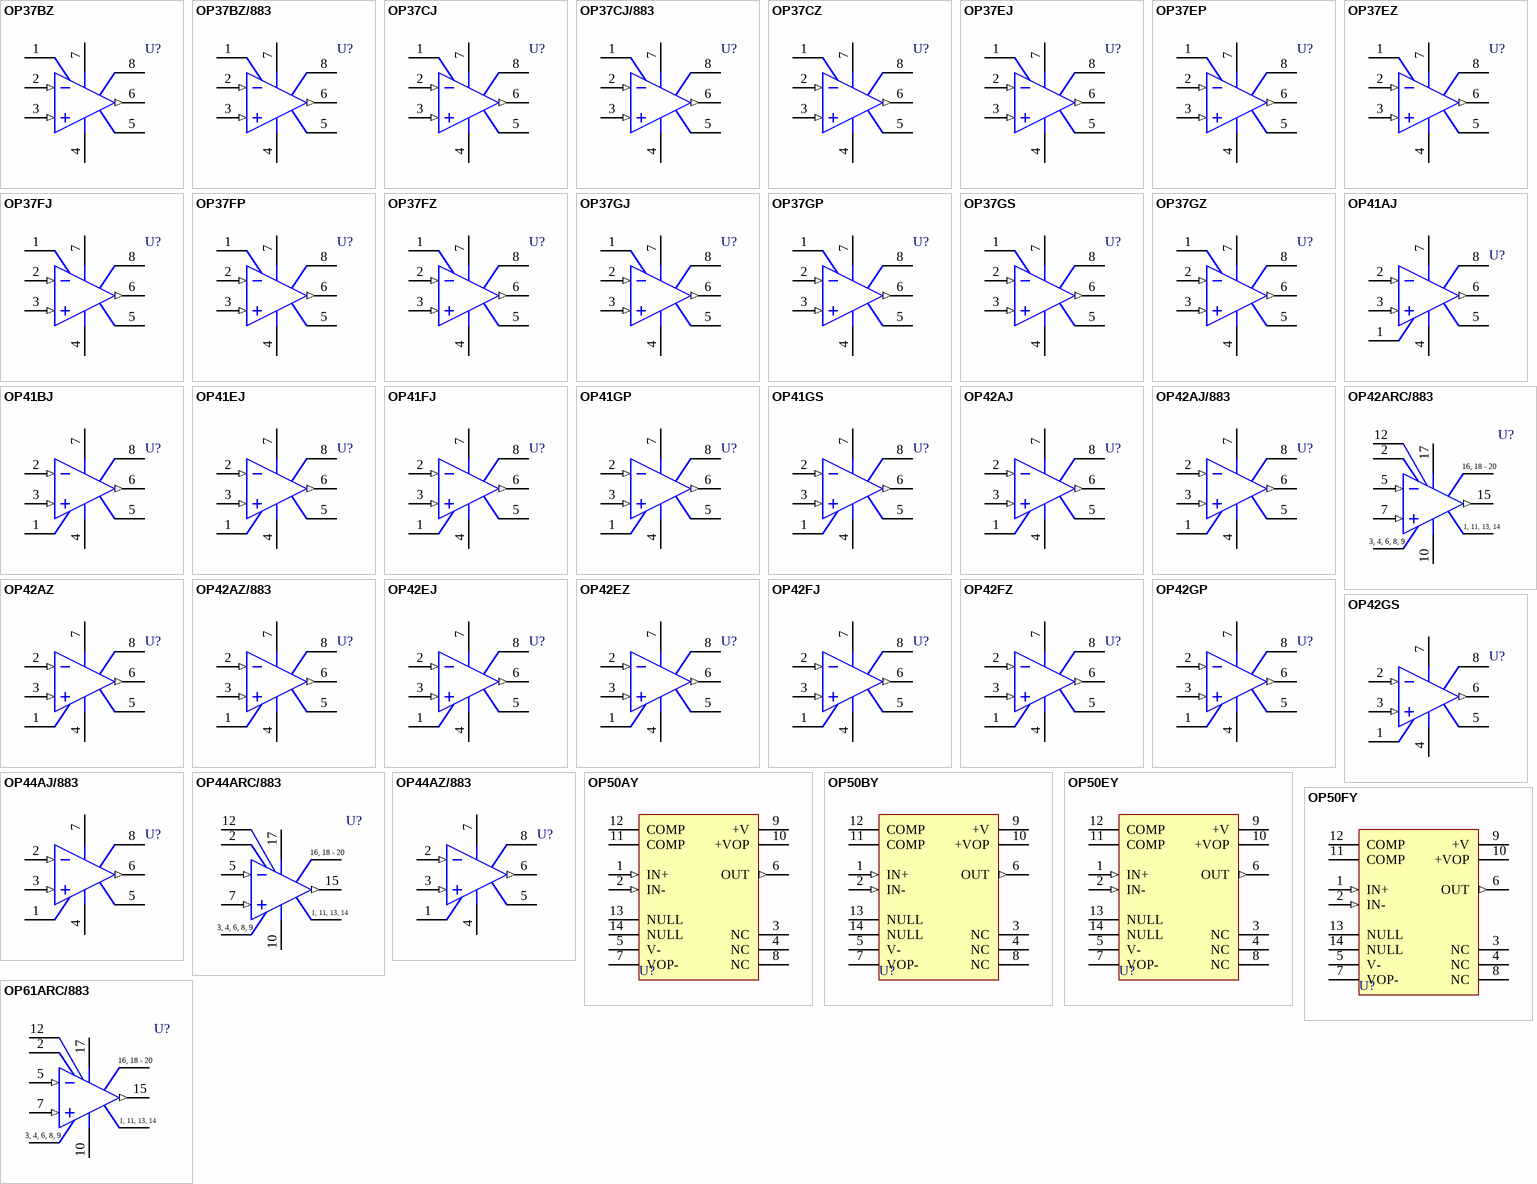
[diagram p24: symbols OP37BZ to OP61ARC/883]

## OP37BZ
designator U?
Low-Noise, Precision, High-Speed Operational Amplifier (Avcl >= 5); Package Information: Latest Revision: 1998; Note: Pin 5 is not connected.; Published: 8-Jun-2000; Revision: 17-Jul-2002: Re-released for DXP Platform.; Datasheet: Designer's Reference Manual CD (1992); Package Reference: Q-8; Publisher: Altium Limited
footprint Q-8 (DIP; 8 Leads; Row Spacing 7.62 mm; Pitch 2.54 mm)
simulation model OP37B (SUBCKT)
pins: 1 VOSTRIM, 2 IN- (in), 3 IN+ (in), 4 V- (power), 5 NC, 6 OUT (out), 7 V+ (power), 8 VOSTRIM

## OP37BZ/883
designator U?
Low-Noise, Precision, High-Speed Operational Amplifier (Avcl >= 5); Package Information: Latest Revision: 1998; Note: Pin 5 is not connected.; Published: 8-Jun-2000; Revision: 17-Jul-2002: Re-released for DXP Platform.; Datasheet: Designer's Reference Manual CD (1992); Package Reference: Q-8; Publisher: Altium Limited
footprint Q-8 (DIP; 8 Leads; Row Spacing 7.62 mm; Pitch 2.54 mm)
simulation model OP37B (SUBCKT)
pins: 1 VOSTRIM, 2 IN- (in), 3 IN+ (in), 4 V- (power), 5 NC, 6 OUT (out), 7 V+ (power), 8 VOSTRIM

## OP37CJ
designator U?
Low-Noise, Precision, High-Speed Operational Amplifier (Avcl >= 5); Package Information: Latest Revision: 1990; Note: Pin 5 is not connected; Pin 4 connected to case.; Published: 8-Jun-2000; Revision: 17-Jul-2002: Re-released for DXP Platform.; Datasheet: Designer's Reference Manual CD (1992); Package Reference: H-08A; Publisher: Altium Limited
footprint H-08A (Can; 8 Leads; Pin Circle Dia. 5.08 mm; Lead Dia. 0.53 mm (max))
simulation model OP37C (SUBCKT)
pins: 1 VOSTRIM, 2 IN- (in), 3 IN+ (in), 4 V- (power), 5 NC, 6 OUT (out), 7 V+ (power), 8 VOSTRIM

## OP37CJ/883
designator U?
Low-Noise, Precision, High-Speed Operational Amplifier (Avcl >= 5); Package Information: Latest Revision: 1990; Note: Pin 5 is not connected; Pin 4 connected to case.; Published: 8-Jun-2000; Revision: 17-Jul-2002: Re-released for DXP Platform.; Datasheet: Designer's Reference Manual CD (1992); Package Reference: H-08A; Publisher: Altium Limited
footprint H-08A (Can; 8 Leads; Pin Circle Dia. 5.08 mm; Lead Dia. 0.53 mm (max))
simulation model OP37C (SUBCKT)
pins: 1 VOSTRIM, 2 IN- (in), 3 IN+ (in), 4 V- (power), 5 NC, 6 OUT (out), 7 V+ (power), 8 VOSTRIM

## OP37CZ
designator U?
Low-Noise, Precision, High-Speed Operational Amplifier (Avcl >= 5); Package Information: Latest Revision: 1998; Note: Pin 5 is not connected.; Published: 8-Jun-2000; Revision: 17-Jul-2002: Re-released for DXP Platform.; Datasheet: Designer's Reference Manual CD (1992); Package Reference: Q-8; Publisher: Altium Limited
footprint Q-8 (DIP; 8 Leads; Row Spacing 7.62 mm; Pitch 2.54 mm)
simulation model OP37C (SUBCKT)
pins: 1 VOSTRIM, 2 IN- (in), 3 IN+ (in), 4 V- (power), 5 NC, 6 OUT (out), 7 V+ (power), 8 VOSTRIM

## OP37EJ
designator U?
Low-Noise, Precision, High-Speed Operational Amplifier (Avcl >= 5); Package Information: Latest Revision: 1990; Note: Pin 5 is not connected; Pin 4 connected to case.; Published: 8-Jun-2000; Revision: 17-Jul-2002: Re-released for DXP Platform.; Datasheet: Designer's Reference Manual CD (1992); Package Reference: H-08A; Publisher: Altium Limited
footprint H-08A (Can; 8 Leads; Pin Circle Dia. 5.08 mm; Lead Dia. 0.53 mm (max))
simulation model OP37E (SUBCKT)
pins: 1 VOSTRIM, 2 IN- (in), 3 IN+ (in), 4 V- (power), 5 NC, 6 OUT (out), 7 V+ (power), 8 VOSTRIM

## OP37EP
designator U?
Low-Noise, Precision, High-Speed Operational Amplifier (Avcl >= 5); Note: Pin 5 is not connected.; Code - JEDEC: MO-001-AN; Published: 8-Jun-2000; Revision: 17-Jul-2002: Re-released for DXP Platform.; Datasheet: Designer's Reference Manual CD (1992); Package Reference: N-8_A; Publisher: Altium Limited
footprint N-8_A (DIP; 8 Leads; Row Spacing 7.62 mm; Pitch 2.54 mm)
simulation model OP37E (SUBCKT)
pins: 1 VOSTRIM, 2 IN- (in), 3 IN+ (in), 4 V- (power), 5 NC, 6 OUT (out), 7 V+ (power), 8 VOSTRIM

## OP37EZ
designator U?
Low-Noise, Precision, High-Speed Operational Amplifier (Avcl >= 5); Package Information: Latest Revision: 1998; Note: Pin 5 is not connected.; Published: 8-Jun-2000; Revision: 17-Jul-2002: Re-released for DXP Platform.; Datasheet: Designer's Reference Manual CD (1992); Package Reference: Q-8; Publisher: Altium Limited
footprint Q-8 (DIP; 8 Leads; Row Spacing 7.62 mm; Pitch 2.54 mm)
simulation model OP37E (SUBCKT)
pins: 1 VOSTRIM, 2 IN- (in), 3 IN+ (in), 4 V- (power), 5 NC, 6 OUT (out), 7 V+ (power), 8 VOSTRIM

## OP37FJ
designator U?
Low-Noise, Precision, High-Speed Operational Amplifier (Avcl >= 5); Package Information: Latest Revision: 1990; Note: Pin 5 is not connected; Pin 4 connected to case.; Published: 8-Jun-2000; Revision: 17-Jul-2002: Re-released for DXP Platform.; Datasheet: Designer's Reference Manual CD (1992); Package Reference: H-08A; Publisher: Altium Limited
footprint H-08A (Can; 8 Leads; Pin Circle Dia. 5.08 mm; Lead Dia. 0.53 mm (max))
simulation model OP37F (SUBCKT)
pins: 1 VOSTRIM, 2 IN- (in), 3 IN+ (in), 4 V- (power), 5 NC, 6 OUT (out), 7 V+ (power), 8 VOSTRIM

## OP37FP
designator U?
Low-Noise, Precision, High-Speed Operational Amplifier (Avcl >= 5); Note: Pin 5 is not connected.; Code - JEDEC: MO-001-AN; Published: 8-Jun-2000; Revision: 17-Jul-2002: Re-released for DXP Platform.; Datasheet: Designer's Reference Manual CD (1992); Package Reference: N-8_A; Publisher: Altium Limited
footprint N-8_A (DIP; 8 Leads; Row Spacing 7.62 mm; Pitch 2.54 mm)
simulation model OP37F (SUBCKT)
pins: 1 VOSTRIM, 2 IN- (in), 3 IN+ (in), 4 V- (power), 5 NC, 6 OUT (out), 7 V+ (power), 8 VOSTRIM

## OP37FZ
designator U?
Low-Noise, Precision, High-Speed Operational Amplifier (Avcl >= 5); Package Information: Latest Revision: 1998; Note: Pin 5 is not connected.; Published: 8-Jun-2000; Revision: 17-Jul-2002: Re-released for DXP Platform.; Datasheet: Designer's Reference Manual CD (1992); Package Reference: Q-8; Publisher: Altium Limited
footprint Q-8 (DIP; 8 Leads; Row Spacing 7.62 mm; Pitch 2.54 mm)
simulation model OP37F (SUBCKT)
pins: 1 VOSTRIM, 2 IN- (in), 3 IN+ (in), 4 V- (power), 5 NC, 6 OUT (out), 7 V+ (power), 8 VOSTRIM

## OP37GJ
designator U?
Low-Noise, Precision, High-Speed Operational Amplifier (Avcl >= 5); Package Information: Latest Revision: 1990; Note: Pin 5 is not connected; Pin 4 connected to case.; Published: 8-Jun-2000; Revision: 17-Jul-2002: Re-released for DXP Platform.; Datasheet: Designer's Reference Manual CD (1992); Package Reference: H-08A; Publisher: Altium Limited
footprint H-08A (Can; 8 Leads; Pin Circle Dia. 5.08 mm; Lead Dia. 0.53 mm (max))
simulation model OP37G (SUBCKT)
pins: 1 VOSTRIM, 2 IN- (in), 3 IN+ (in), 4 V- (power), 5 NC, 6 OUT (out), 7 V+ (power), 8 VOSTRIM

## OP37GP
designator U?
Low-Noise, Precision, High-Speed Operational Amplifier (Avcl >= 5); Note: Pin 5 is not connected.; Code - JEDEC: MO-001-AN; Published: 8-Jun-2000; Revision: 17-Jul-2002: Re-released for DXP Platform.; Datasheet: Designer's Reference Manual CD (1992); Package Reference: N-8_A; Publisher: Altium Limited
footprint N-8_A (DIP; 8 Leads; Row Spacing 7.62 mm; Pitch 2.54 mm)
simulation model OP37G (SUBCKT)
pins: 1 VOSTRIM, 2 IN- (in), 3 IN+ (in), 4 V- (power), 5 NC, 6 OUT (out), 7 V+ (power), 8 VOSTRIM

## OP37GS
designator U?
Low-Noise, Precision, High-Speed Operational Amplifier (Avcl >= 5); Package Information: Latest Revision: revA; Note: Pin 5 is not connected.; Code - JEDEC: MS-012-AA; Code - IPC: SO8; Published: 8-Jun-2000; Revision: 17-Jul-2002: Re-released for DXP Platform.; Datasheet: Designer's Reference Manual CD (1992); Package Reference: SO-8; Publisher: Altium Limited
footprint SO-8 (Small Outline; 8 Leads; Body Width 3.9 mm; Pitch 1.27 mm)
simulation model OP37G (SUBCKT)
pins: 1 VOSTRIM, 2 IN- (in), 3 IN+ (in), 4 V- (power), 5 NC, 6 OUT (out), 7 V+ (power), 8 VOSTRIM

## OP37GZ
designator U?
Low-Noise, Precision, High-Speed Operational Amplifier (Avcl >= 5); Package Information: Latest Revision: 1998; Note: Pin 5 is not connected.; Published: 8-Jun-2000; Revision: 17-Jul-2002: Re-released for DXP Platform.; Datasheet: Designer's Reference Manual CD (1992); Package Reference: Q-8; Publisher: Altium Limited
footprint Q-8 (DIP; 8 Leads; Row Spacing 7.62 mm; Pitch 2.54 mm)
simulation model OP37G (SUBCKT)
pins: 1 VOSTRIM, 2 IN- (in), 3 IN+ (in), 4 V- (power), 5 NC, 6 OUT (out), 7 V+ (power), 8 VOSTRIM

## OP41AJ
designator U?
Low-Bias-Current, High-Stability JFET Operational Amplifier; Package Information: Latest Revision: 1990; Note: Pin 8 is not connected; Pin 4 connected to case.; Published: 8-Jun-2000; Revision: 17-Jul-2002: Re-released for DXP Platform.; Datasheet: Latest Revision: 1992; Package Reference: H-08A; Publisher: Altium Limited
footprint H-08A (Can; 8 Leads; Pin Circle Dia. 5.08 mm; Lead Dia. 0.53 mm (max))
simulation model OP41A (SUBCKT)
pins: 1 BAL, 2 IN- (in), 3 IN+ (in), 4 V- (power), 5 BAL, 6 OUT (out), 7 V+ (power), 8 NC

## OP41BJ
designator U?
Low-Bias-Current, High-Stability JFET Operational Amplifier; Package Information: Latest Revision: 1990; Note: Pin 8 is not connected; Pin 4 connected to case.; Published: 8-Jun-2000; Revision: 17-Jul-2002: Re-released for DXP Platform.; Datasheet: Latest Revision: 1992; Package Reference: H-08A; Publisher: Altium Limited
footprint H-08A (Can; 8 Leads; Pin Circle Dia. 5.08 mm; Lead Dia. 0.53 mm (max))
simulation model OP41B (SUBCKT)
pins: 1 BAL, 2 IN- (in), 3 IN+ (in), 4 V- (power), 5 BAL, 6 OUT (out), 7 V+ (power), 8 NC

## OP41EJ
designator U?
Low-Bias-Current, High-Stability JFET Operational Amplifier; Package Information: Latest Revision: 1990; Note: Pin 8 is not connected; Pin 4 connected to case.; Published: 8-Jun-2000; Revision: 17-Jul-2002: Re-released for DXP Platform.; Datasheet: Latest Revision: 1992; Package Reference: H-08A; Publisher: Altium Limited
footprint H-08A (Can; 8 Leads; Pin Circle Dia. 5.08 mm; Lead Dia. 0.53 mm (max))
simulation model OP41E (SUBCKT)
pins: 1 BAL, 2 IN- (in), 3 IN+ (in), 4 V- (power), 5 BAL, 6 OUT (out), 7 V+ (power), 8 NC

## OP41FJ
designator U?
Low-Bias-Current, High-Stability JFET Operational Amplifier; Package Information: Latest Revision: 1990; Note: Pin 8 is not connected; Pin 4 connected to case.; Published: 8-Jun-2000; Revision: 17-Jul-2002: Re-released for DXP Platform.; Datasheet: Latest Revision: 1992; Package Reference: H-08A; Publisher: Altium Limited
footprint H-08A (Can; 8 Leads; Pin Circle Dia. 5.08 mm; Lead Dia. 0.53 mm (max))
simulation model OP41F (SUBCKT)
pins: 1 BAL, 2 IN- (in), 3 IN+ (in), 4 V- (power), 5 BAL, 6 OUT (out), 7 V+ (power), 8 NC

## OP41GP
designator U?
Low-Bias-Current, High-Stability JFET Operational Amplifier; Note: Pin 8 is not connected.; Code - JEDEC: MO-001-AN; Published: 8-Jun-2000; Revision: 17-Jul-2002: Re-released for DXP Platform.; Datasheet: Latest Revision: 1992; Package Reference: N-8_A; Publisher: Altium Limited
footprint N-8_A (DIP; 8 Leads; Row Spacing 7.62 mm; Pitch 2.54 mm)
simulation model OP41G (SUBCKT)
pins: 1 NUL, 2 IN- (in), 3 IN+ (in), 4 V- (power), 5 NUL, 6 OUT (out), 7 V+ (power), 8 NC

## OP41GS
designator U?
Low-Bias-Current, High-Stability JFET Operational Amplifier; Package Information: Latest Revision: revA; Note: Pin 8 is not connected.; Code - JEDEC: MS-012-AA; Code - IPC: SO8; Published: 8-Jun-2000; Revision: 17-Jul-2002: Re-released for DXP Platform.; Datasheet: Latest Revision: 1992; Package Reference: SO-8; Publisher: Altium Limited
footprint SO-8 (Small Outline; 8 Leads; Body Width 3.9 mm; Pitch 1.27 mm)
simulation model OP41G (SUBCKT)
pins: 1 NUL, 2 IN- (in), 3 IN+ (in), 4 V- (power), 5 NUL, 6 OUT (out), 7 V+ (power), 8 NC

## OP42AJ
designator U?
High-Speed, Fast-Settling Precision Operational Amplifier; Package Information: Latest Revision: 1990; Note: Pin 8 is not connected; Pin 4 connected to case.; Published: 8-Jun-2000; Revision: 17-Jul-2002: Re-released for DXP Platform.; Datasheet: Designer's Reference Manual CD (1992); Package Reference: H-08A; Publisher: Altium Limited
footprint H-08A (Can; 8 Leads; Pin Circle Dia. 5.08 mm; Lead Dia. 0.53 mm (max))
simulation model OP42A (SUBCKT)
pins: 1 BAL, 2 IN- (in), 3 IN+ (in), 4 V- (power), 5 BAL, 6 OUT (out), 7 V+ (power), 8 NC

## OP42AJ/883
designator U?
High-Speed, Fast-Settling Precision Operational Amplifier; Package Information: Latest Revision: 1990; Note: Pin 8 is not connected; Pin 4 connected to case.; Published: 8-Jun-2000; Revision: 17-Jul-2002: Re-released for DXP Platform.; Datasheet: Designer's Reference Manual CD (1992); Package Reference: H-08A; Publisher: Altium Limited
footprint H-08A (Can; 8 Leads; Pin Circle Dia. 5.08 mm; Lead Dia. 0.53 mm (max))
simulation model OP42A (SUBCKT)
pins: 1 BAL, 2 IN- (in), 3 IN+ (in), 4 V- (power), 5 BAL, 6 OUT (out), 7 V+ (power), 8 NC

## OP42ARC/883
designator U?
High-Speed, Fast-Settling Precision Operational Amplifier; Note: Pins 1, 3, 4, 6, 8, 9, 11, 13, 14, 16, 18, 19 and 20 are not connected.; Published: 8-Jun-2000; Revision: 17-Jul-2002: Re-released for DXP Platform.; Datasheet: Designer's Reference Manual CD (1992); Package Reference: E-20A; Publisher: Altium Limited
footprint E-20A (Leadless Chip Carrier; 20 Terminals; Body 8.9 x 8.9 mm)
simulation model OP42A (SUBCKT)
pins: 1 NC, 2 NUL, 3 NC, 4 NC, 5 IN- (in), 6 NC, 7 IN+ (in), 8 NC, 9 NC, 10 V- (power), 11 NC, 12 NUL, 13 NC, 14 NC, 15 OUT (out), 16 NC, 17 V+ (power), 18 NC, 19 NC, 20 NC
text: 16, 18 - 20; 1, 11, 13, 14; 3, 4, 6, 8, 9

## OP42AZ
designator U?
High-Speed, Fast-Settling Precision Operational Amplifier; Package Information: Latest Revision: 1998; Note: Pin 8 is not connected.; Published: 8-Jun-2000; Revision: 17-Jul-2002: Re-released for DXP Platform.; Datasheet: Designer's Reference Manual CD (1992); Package Reference: Q-8; Publisher: Altium Limited
footprint Q-8 (DIP; 8 Leads; Row Spacing 7.62 mm; Pitch 2.54 mm)
simulation model OP42A (SUBCKT)
pins: 1 NUL, 2 IN- (in), 3 IN+ (in), 4 V- (power), 5 NUL, 6 OUT (out), 7 V+ (power), 8 NC

## OP42AZ/883
designator U?
High-Speed, Fast-Settling Precision Operational Amplifier; Package Information: Latest Revision: 1998; Note: Pin 8 is not connected.; Published: 8-Jun-2000; Revision: 17-Jul-2002: Re-released for DXP Platform.; Datasheet: Designer's Reference Manual CD (1992); Package Reference: Q-8; Publisher: Altium Limited
footprint Q-8 (DIP; 8 Leads; Row Spacing 7.62 mm; Pitch 2.54 mm)
simulation model OP42A (SUBCKT)
pins: 1 NUL, 2 IN- (in), 3 IN+ (in), 4 V- (power), 5 NUL, 6 OUT (out), 7 V+ (power), 8 NC

## OP42EJ
designator U?
High-Speed, Fast-Settling Precision Operational Amplifier; Package Information: Latest Revision: 1990; Note: Pin 8 is not connected; Pin 4 connected to case.; Published: 8-Jun-2000; Revision: 17-Jul-2002: Re-released for DXP Platform.; Datasheet: Designer's Reference Manual CD (1992); Package Reference: H-08A; Publisher: Altium Limited
footprint H-08A (Can; 8 Leads; Pin Circle Dia. 5.08 mm; Lead Dia. 0.53 mm (max))
simulation model OP42E (SUBCKT)
pins: 1 BAL, 2 IN- (in), 3 IN+ (in), 4 V- (power), 5 BAL, 6 OUT (out), 7 V+ (power), 8 NC

## OP42EZ
designator U?
High-Speed, Fast-Settling Precision Operational Amplifier; Package Information: Latest Revision: 1998; Note: Pin 8 is not connected.; Published: 8-Jun-2000; Revision: 17-Jul-2002: Re-released for DXP Platform.; Datasheet: Designer's Reference Manual CD (1992); Package Reference: Q-8; Publisher: Altium Limited
footprint Q-8 (DIP; 8 Leads; Row Spacing 7.62 mm; Pitch 2.54 mm)
simulation model OP42E (SUBCKT)
pins: 1 NUL, 2 IN- (in), 3 IN+ (in), 4 V- (power), 5 NUL, 6 OUT (out), 7 V+ (power), 8 NC

## OP42FJ
designator U?
High-Speed, Fast-Settling Precision Operational Amplifier; Package Information: Latest Revision: 1990; Note: Pin 8 is not connected; Pin 4 connected to case.; Published: 8-Jun-2000; Revision: 17-Jul-2002: Re-released for DXP Platform.; Datasheet: Designer's Reference Manual CD (1992); Package Reference: H-08A; Publisher: Altium Limited
footprint H-08A (Can; 8 Leads; Pin Circle Dia. 5.08 mm; Lead Dia. 0.53 mm (max))
simulation model OP42F (SUBCKT)
pins: 1 BAL, 2 IN- (in), 3 IN+ (in), 4 V- (power), 5 BAL, 6 OUT (out), 7 V+ (power), 8 NC

## OP42FZ
designator U?
High-Speed, Fast-Settling Precision Operational Amplifier; Package Information: Latest Revision: 1998; Note: Pin 8 is not connected.; Published: 8-Jun-2000; Revision: 17-Jul-2002: Re-released for DXP Platform.; Datasheet: Designer's Reference Manual CD (1992); Package Reference: Q-8; Publisher: Altium Limited
footprint Q-8 (DIP; 8 Leads; Row Spacing 7.62 mm; Pitch 2.54 mm)
simulation model OP42F (SUBCKT)
pins: 1 NUL, 2 IN- (in), 3 IN+ (in), 4 V- (power), 5 NUL, 6 OUT (out), 7 V+ (power), 8 NC

## OP42GP
designator U?
High-Speed, Fast-Settling Precision Operational Amplifier; Note: Pin 8 is not connected.; Code - JEDEC: MO-001-AN; Published: 8-Jun-2000; Revision: 17-Jul-2002: Re-released for DXP Platform.; Datasheet: Designer's Reference Manual CD (1992); Package Reference: N-8_A; Publisher: Altium Limited
footprint N-8_A (DIP; 8 Leads; Row Spacing 7.62 mm; Pitch 2.54 mm)
simulation model OP42G (SUBCKT)
pins: 1 NUL, 2 IN- (in), 3 IN+ (in), 4 V- (power), 5 NUL, 6 OUT (out), 7 V+ (power), 8 NC

## OP42GS
designator U?
High-Speed, Fast-Settling Precision Operational Amplifier; Package Information: Latest Revision: revA; Note: Pin 8 is not connected.; Code - JEDEC: MS-012-AA; Code - IPC: SO8; Published: 8-Jun-2000; Revision: 17-Jul-2002: Re-released for DXP Platform.; Datasheet: Designer's Reference Manual CD (1992); Package Reference: SO-8; Publisher: Altium Limited
footprint SO-8 (Small Outline; 8 Leads; Body Width 3.9 mm; Pitch 1.27 mm)
simulation model OP42G (SUBCKT)
pins: 1 NUL, 2 IN- (in), 3 IN+ (in), 4 V- (power), 5 NUL, 6 OUT (out), 7 V+ (power), 8 NC

## OP44AJ/883
designator U?
High-Speed, Precision Operational Amplifier (Avcl >= 3); Package Information: Latest Revision: 1993; Note: Pin 8 is not connected; Pin 4 connected to case.; Published: 8-Jun-2000; Revision: 17-Jul-2002: Re-released for DXP Platform.; Datasheet: Latest Revision: REV. A 1993; Package Reference: H-08A_D; Publisher: Altium Limited
footprint H-08A_D (Can; 8 Leads; Pin Circle Dia. 5.08 mm; Lead Dia. 0.48 mm (max))
simulation model OP44 (SUBCKT)
pins: 1 BAL, 2 IN- (in), 3 IN+ (in), 4 V- (power), 5 BAL, 6 OUT (out), 7 V+ (power), 8 NC

## OP44ARC/883
designator U?
High-Speed, Precision Operational Amplifier (Avcl >= 3); Note: Pins 1, 3, 4, 6, 8, 9, 11, 13, 14, 16, 18, 19 and 20 are not connected.; Published: 8-Jun-2000; Revision: 17-Jul-2002: Re-released for DXP Platform.; Datasheet: Latest Revision: REV. A 1993; Package Reference: E-20A; Publisher: Altium Limited
footprint E-20A (Leadless Chip Carrier; 20 Terminals; Body 8.9 x 8.9 mm)
simulation model OP44 (SUBCKT)
pins: 1 NC, 2 NUL, 3 NC, 4 NC, 5 IN- (in), 6 NC, 7 IN+ (in), 8 NC, 9 NC, 10 V- (power), 11 NC, 12 NUL, 13 NC, 14 NC, 15 OUT (out), 16 NC, 17 V+ (power), 18 NC, 19 NC, 20 NC
text: 16, 18 - 20; 1, 11, 13, 14; 3, 4, 6, 8, 9

## OP44AZ/883
designator U?
High-Speed, Precision Operational Amplifier (Avcl >= 3); Package Information: Latest Revision: 1998; Note: Pin 8 is not connected.; Published: 8-Jun-2000; Revision: 17-Jul-2002: Re-released for DXP Platform.; Datasheet: Latest Revision: REV. A 1993; Package Reference: Q-8; Publisher: Altium Limited
footprint Q-8 (DIP; 8 Leads; Row Spacing 7.62 mm; Pitch 2.54 mm)
simulation model OP44 (SUBCKT)
pins: 1 NUL, 2 IN- (in), 3 IN+ (in), 4 V- (power), 5 NUL, 6 OUT (out), 7 V+ (power), 8 NC

## OP50AY
designator U?
High-Output-Current Operational Amplifier (Avcl >= 5); Revision 1: 22-Jun-2000: Pins 13 and 14 renamed 'NULL' from 'NUL'.; Revision 2: 17-Jul-2002: Re-released for DXP Platform.; Package Information: Latest Revision: revB; Note: Pins 3, 4, and 8 are not connected; Published: 8-Jun-2000; Datasheet: Latest Revision: 1992; Package Reference: Q-14; Publisher: Altium Limited
footprint Q-14 (DIP; 14 Leads; Row Spacing 7.62 mm; Pitch 2.54 mm)
pins: 1 IN+ (in), 2 IN- (in), 3 NC, 4 NC, 5 V- (power), 6 OUT (out), 7 VOP- (power), 8 NC, 9 +V (power), 10 +VOP (power), 11 COMP, 12 COMP, 13 NULL, 14 NULL